# Altium schematic symbol library DRV8231.SchLib: 1 symbol
Pins are listed as number, name and electrical type; pins without a type are passive.

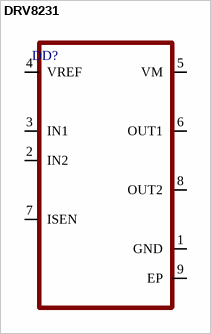
[diagram p0: symbol DRV8231]

## DRV8231
designator DD?
pins: 1 GND, 2 IN2, 3 IN1, 4 VREF, 5 VM, 6 OUT1, 7 ISEN, 8 OUT2, 9 EP